# EAGLE library part FABO-IMP (library FaBo-Template)
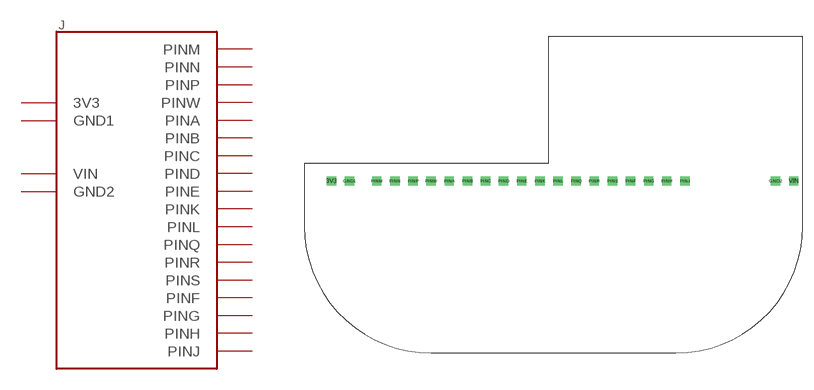
[diagram p7: symbol with the pads of FABO-IMP; footprint FABO-IMP]

Designator prefix J

## FABO-IMP  [FABO-IMP]
3V3  3V3
GND1  GND1
GND2  GND2
PINA  PINA
PINB  PINB
PINC  PINC
PIND  PIND
PINE  PINE
PINF  PINF
PING  PING
PINH  PINH
PINJ  PINJ
PINK  PINK
PINL  PINL
PINM  PINM
PINN  PINN
PINP  PINP
PINQ  PINQ
PINR  PINR
PINS  PINS
PINW  PINW
VIN  VIN

## Footprint FABO-IMP (pad centres in mm)
drill 0.8 square: 3V3 -31.75,0; GND1 -29.21,0; GND2 30.48,0; PINA -15.24,0; PINB -12.7,0; PINC -10.16,0; PIND -7.62,0; PINE -5.08,0; PINF 10.16,0; PING 12.7,0; PINH 15.24,0; PINJ 17.78,0; PINK -2.54,0; PINL 0,0; PINM -25.4,0; PINN -22.86,0; PINP -20.32,0; PINQ 2.54,0; PINR 5.08,0; PINS 7.62,0; PINW -17.78,0; VIN 33.02,0